# Altium schematic symbol library TCMT4100.SchLib: 1 symbol
Pins are listed as number, name and electrical type; pins without a type are passive.

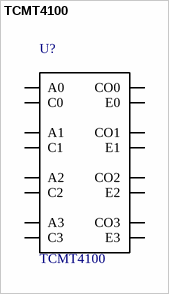
[diagram p0: symbol TCMT4100]

## TCMT4100
designator U?
TCMT4100 Series Quad Channel 70V 3750 Vrms Phototransistor Optocoupler - SOIC-16; MF: Vishay Semiconductor; Price: 1.14 USD; SnapEDA_Link: https://www.snapeda.com/parts/TCMT4100/Vishay%20Semiconductor%20Opto%20Division/view-part/?ref=snap; MP: TCMT4100; Availability: Good; Package: SOP-16 Vishay; Value: *
footprint SOP-16
pins: 1 A0 (io), 2 C0 (io), 3 A1 (io), 4 C1 (io), 5 A2 (io), 6 C2 (io), 7 A3 (io), 8 C3 (io), 9 E3 (io), 10 CO3 (io), 11 E2 (io), 12 CO2 (io), 13 E1 (io), 14 CO1 (io), 15 E0 (io), 16 CO0 (io)